# Altium schematic symbol library Trans,PNP,40V,200mA,Thru.Schlib: 1 symbol
Pins are listed as number, name and electrical type; pins without a type are passive.

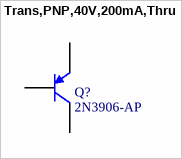
[diagram p0: symbol Trans,PNP,40V,200mA,Thru]

## Trans,PNP,40V,200mA,Thru
designator Q?, comment 2N3906-AP
Bipolar (BJT) Transistor PNP 250MHz Through Hole TO-92
pins: 1 C, 2 B, 3 E